# Altium footprint library 833H-1C.PcbLib: 1 footprints
Each footprint in its own frame and in the unit in brackets; x right, y up, seen from the top. Pads: shape width x height; smd on the part's side, far side on the other; paste and mask are expansions set on the pad; w line width, h text height; cw(c..) or ccw(c..) is an arc to the next point about the centre after c.
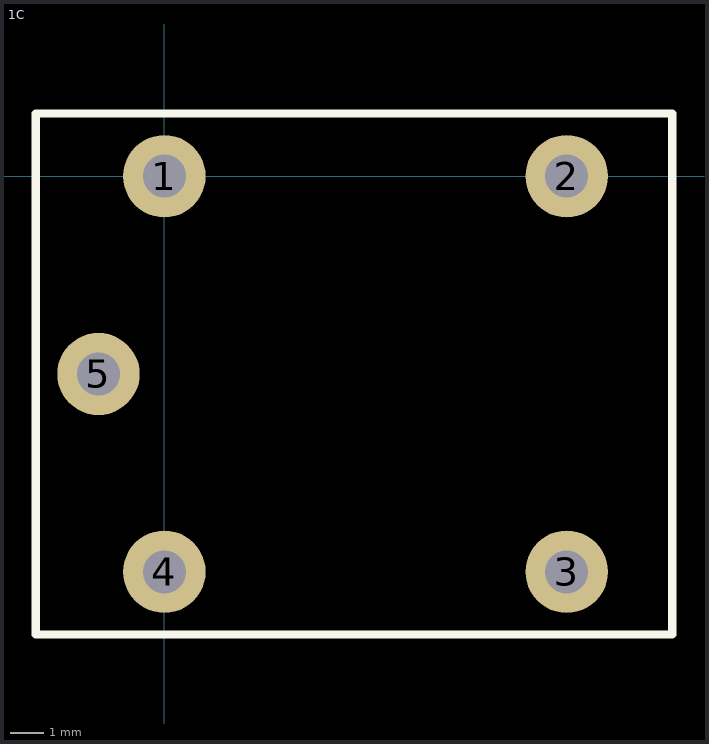
[diagram p0: the footprint, top view; thin cyan lines are the x and y axes]

## 1C [mm]
pads (5):
  round 2.5 hole 1.3: 1(0,0) 2(12.2,0) 3(12.2,-12) 4(0,-12) 5(-2,-6)
Top Overlay:
  lines w0.254: -3.9,-13.9 -3.9,1.9 15.4,1.9 15.4,-13.9 -3.9,-13.9
3D body "833H-1C-C-12VDC.step": height 15.5, standoff -3.5, extent -3.7,-13.75 15.3,1.75